# Altium schematic symbol library Solder_bridge.SchLib: 1 symbol
Pins are listed as number, name and electrical type; pins without a type are passive.

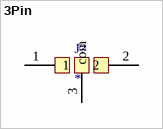
[diagram p0: symbol 3Pin]

## 3Pin
designator J?
footprint Solder_Bridge
pins: 1, 2, 3 com